# EAGLE library part LORAFULLSIZE (library SpatMuy2022)
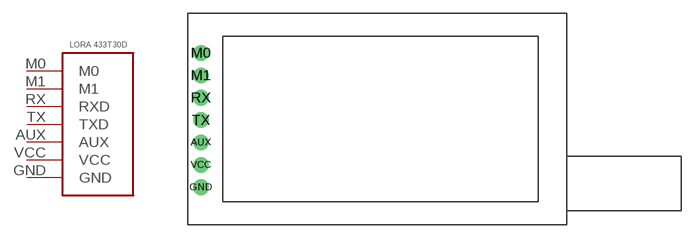
[diagram p8: symbol with the pads of LORAFULLSIZE; footprint LORAFULLSIZE]

Designator prefix -

## LORAFULLSIZE  [LORAFULLSIZE]
AUX  AUX
GND  GND
M0  M0
M1  M1
RX  RXD
TX  TXD
VCC  VCC

## Footprint LORAFULLSIZE (pad centres in mm)
drill 0.9 pad 1.778: AUX -10.51,-3.67; GND -10.51,-8.75; M0 -10.51,6.49; M1 -10.51,3.95; RX -10.51,1.41; TX -10.51,-1.13; VCC -10.51,-6.21